# EAGLE library part QBLP679E-RGB (library OPTO)
PLCC6 RGB LED
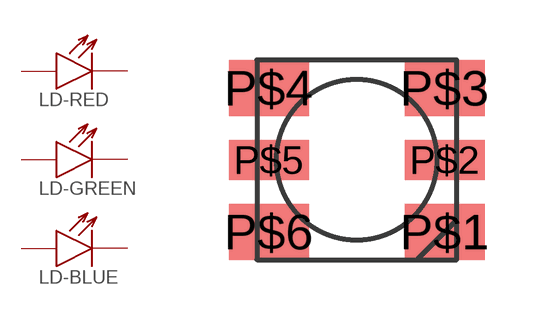
[diagram p0: symbol with the pads of QBLP679E-RGB; footprint QBLP679E-RGB]

Designator prefix LD; gates -RED=LED -GREEN=LED -BLUE=LED

## QBLP679E-RGB  [QBLP679E-RGB]
P$1  -BLUE:A
P$2  -GREEN:A
P$3  -RED:A
P$4  -RED:K
P$5  -GREEN:K
P$6  -BLUE:K

## Footprint QBLP679E-RGB (pad centres in mm)
smd 2 x 1.4: P$1 2.2,-1.8; P$3 2.2,1.8; P$4 -2.2,1.8; P$6 -2.2,-1.8
smd 2 x 1: P$2 2.2,0; P$5 -2.2,0